# EAGLE library part PINHD-1X18 (library DIYmodules-pinhead)
PIN HEADER
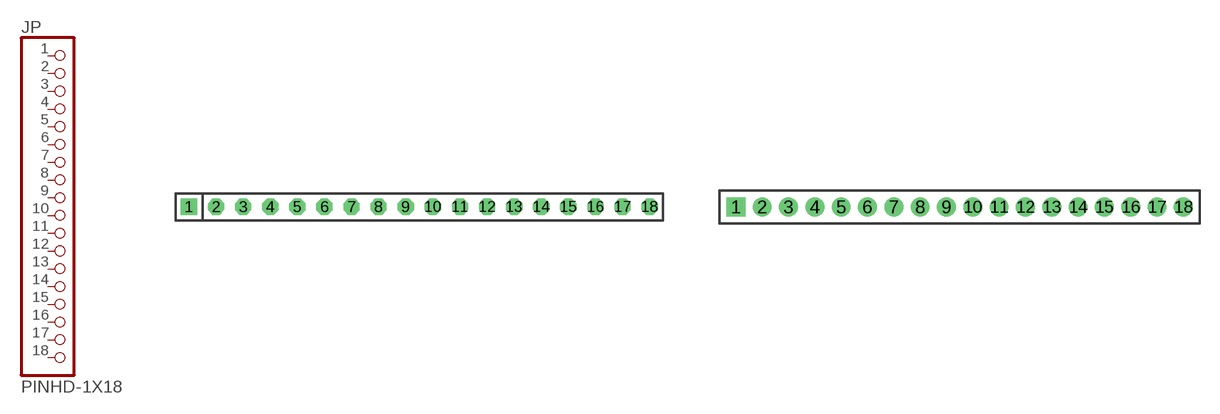
[diagram p14: symbol with the pads of 1X18; footprints 1X18, 1X18M]

Designator prefix JP

## PINHD-1X18  [1X18]
1  1  pas
2  2  pas
3  3  pas
4  4  pas
5  5  pas
6  6  pas
7  7  pas
8  8  pas
9  9  pas
10  10  pas
11  11  pas
12  12  pas
13  13  pas
14  14  pas
15  15  pas
16  16  pas
17  17  pas
18  18  pas

## PINHD-1X18M  [1X18M]
Pads as for 1X18

## Footprint 1X18 (pad centres in mm)
PIN HEADER - 0.1"
drill 1.016 square: 1 -21.59,0
drill 1.016 octagon: 2 -19.05,0; 3 -16.51,0; 4 -13.97,0; 5 -11.43,0; 6 -8.89,0; 7 -6.35,0; 8 -3.81,0; 9 -1.27,0; 10 1.27,0; 11 3.81,0; 12 6.35,0; 13 8.89,0; 14 11.43,0; 15 13.97,0; 16 16.51,0; 17 19.05,0; 18 21.59,0

## Footprint 1X18M (pad centres in mm)
PIN HEADER - 2MM"
drill 0.914 square: 1 -17,0
drill 0.914: 2 -15,0; 3 -13,0; 4 -11,0; 5 -9,0; 6 -7,0; 7 -5,0; 8 -3,0; 9 -1,0; 10 1,0; 11 3,0; 12 5,0; 13 7,0; 14 9,0; 15 11,0; 16 13,0; 17 15,0; 18 17,0